# EAGLE library part DF11-16DP-2DSA(01) (library sense_pcb_components)
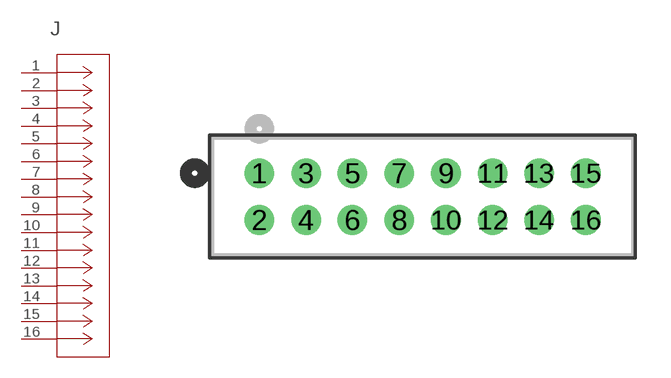
[diagram p1: symbol with the pads of CONN_DF11-16DP-2DSA(01)_HIR; footprint CONN_DF11-16DP-2DSA(01)_HIR]

Designator prefix J

## DF11-16DP-2DSA(01) (COPYRIGHT: Copyright (C) 2023 Ultra Librarian. All rights reserved.; MANUFACTURER_PART_NUMBER: DF11-16DP-2DSA(01); MFR_NAME: Hirose)  [CONN_DF11-16DP-2DSA(01)_HIR]
1  1  pas
2  2  pas
3  3  pas
4  4  pas
5  5  pas
6  6  pas
7  7  pas
8  8  pas
9  9  pas
10  10  pas
11  11  pas
12  12  pas
13  13  pas
14  14  pas
15  15  pas
16  16  pas

## Footprint CONN_DF11-16DP-2DSA(01)_HIR (pad centres in mm)
drill 0.762 pad 1.27: 1 0,0; 2 0,-2.007; 3 2.007,0; 4 2.007,-2.007; 5 3.988,0; 6 3.988,-2.007; 7 5.994,0; 8 5.994,-2.007; 9 8.001,0; 10 8.001,-2.007; 11 10.008,0; 12 10.008,-2.007; 13 11.989,0; 14 11.989,-2.007; 15 13.995,0; 16 13.995,-2.007